# Altium integrated library 2355182-4.IntLib: 1 symbol
Pins are listed as number, name and electrical type; pins without a type are passive.

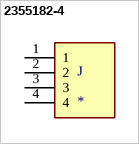
[diagram p0: symbol 2355182-4]

## 2355182-4
designator J
Pin 4P,2MM,BRK HDR,SRVT,2.8,0.76AU,TB 4 POS; MF: TE Connectivity; MP: 2355182-4; Package: None; Value: *; Price: None; DigiKey-Purchase-URL: https://snapeda.com/shop?store=DigiKey&id=4243483; Availability: Unavailable; SnapEDA_Link: https://www.snapeda.com/parts/2355182-4/TE%20Connectivity/view-part/4243483/?ref=snap
footprint TE_2355182-4
pins: 1, 2, 3, 4